# EAGLE library part TPM10515 (library traco)
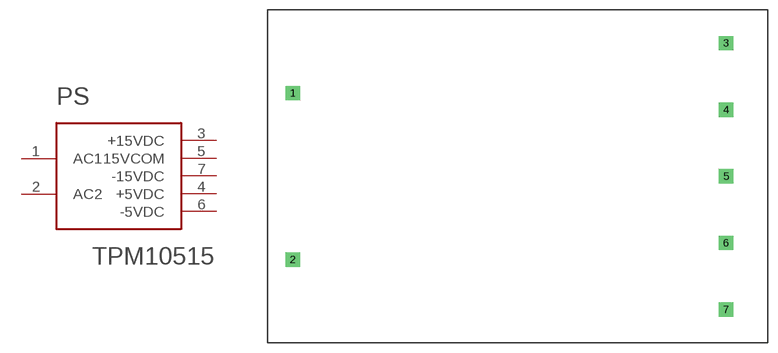
[diagram p0: symbol with the pads of 10515; footprint 10515]

Designator prefix PS

## TPM10515  [10515]
1  AC1
2  AC2
3  +15VDC
4  +5VDC
5  15VCOM
6  -5VDC
7  -15VDC

## Footprint 10515 (pad centres in mm)
drill 1.27 pad 2.184 square: 1 3.81,38.1; 2 3.81,12.7; 3 69.85,45.72; 4 69.85,35.56; 5 69.85,25.4; 6 69.85,15.24; 7 69.85,5.08